# EAGLE library part OSTEE-08-3.5 (library AL-Connectors)
TERMINAL BLOCK 3.5MM 8POS PCB http://www.on-shore.com/wp-content/uploads/2015/09/osttexx0164.pdf
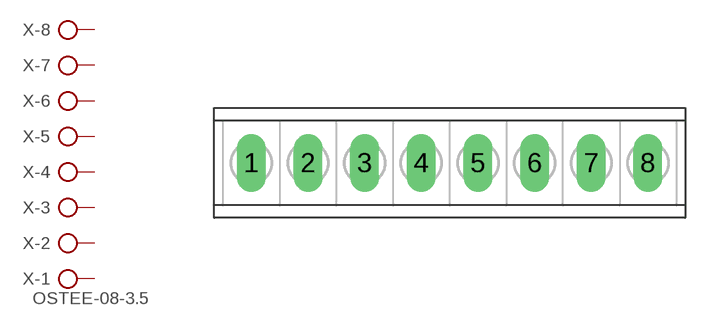
[diagram p1: symbol with the pads of OSTEE-08-3.5; footprint OSTEE-08-3.5]

Designator prefix X; gates -1=KLV -2=KL -3=KL -4=KL -5=KL -6=KL -7=KL -8=KL

## OSTEE-08-3.5  [OSTEE-08-3.5]
1  -1:KL  pas
2  -2:KL  pas
3  -3:KL  pas
4  -4:KL  pas
5  -5:KL  pas
6  -6:KL  pas
7  -7:KL  pas
8  -8:KL  pas

## Footprint OSTEE-08-3.5 (pad centres in mm)
TERMINAL BLOCK 3.5MM 8POS PCB
drill 1.2 long: 1 -12.25,0; 2 -8.75,0; 3 -5.25,0; 4 -1.75,0; 5 1.75,0; 6 5.25,0; 7 8.75,0; 8 12.25,0